# Altium footprint library con-molex-micro-fit-3_0.PCBLIB: 194 footprints (part 2 of 13)
Each footprint in its own frame and in the unit in brackets; x right, y up, seen from the top. Pads: shape width x height; smd on the part's side, far side on the other; paste and mask are expansions set on the pad; w line width, h text height; cw(c..) or ccw(c..) is an arc to the next point about the centre after c.
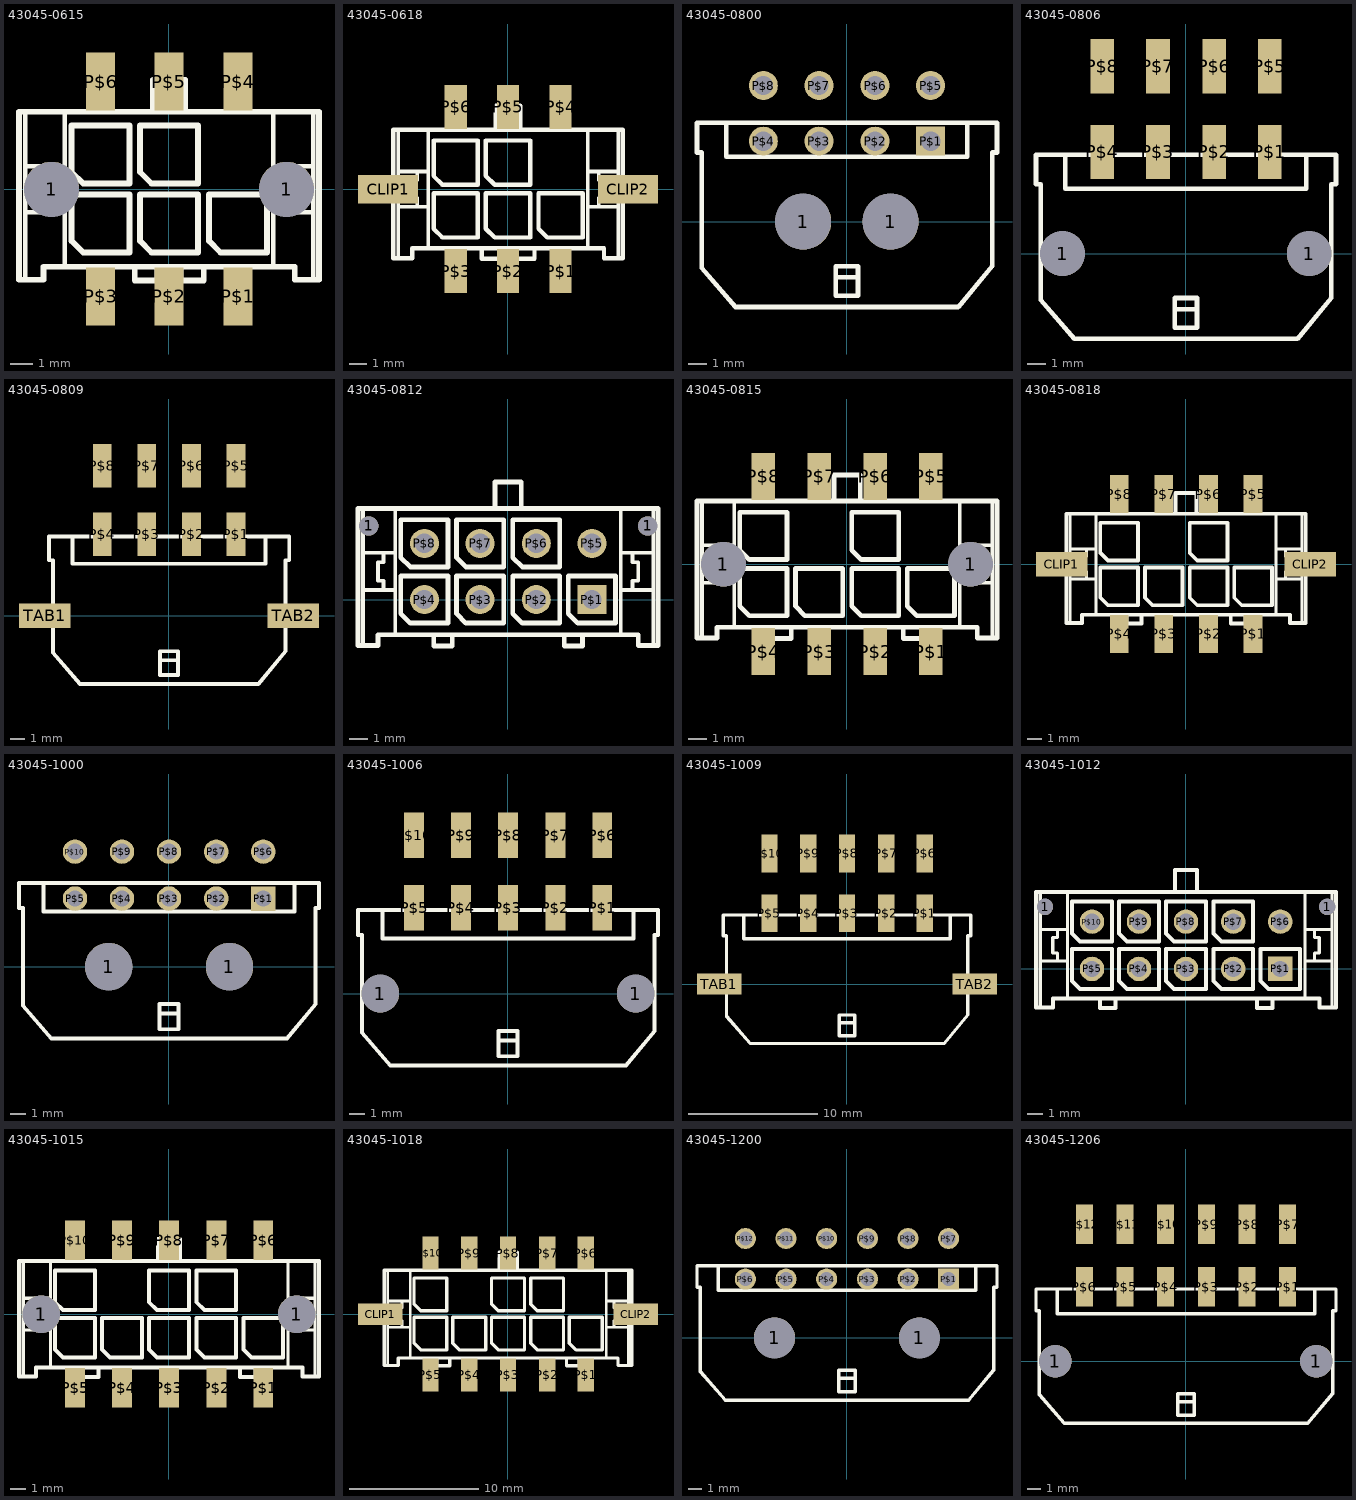
[diagram p1: the footprints below, top view; thin cyan lines are the x and y axes]

## 43045-0615 [mil]
pads (8):
  round 95 hole 95: 1(-202.76,0) 1(203,0)
  rect 50x100 smd: P$1(119,-185.04) P$2(0,-185.04) P$3(-118.11,-185.04) P$4(119,186) P$5(0,186) P$6(-118.11,186)
Top Overlay:
  lines w8: -248.03,-156.3 -248.03,-39.37 ; -248.03,134 -248.03,40 ; -179.92,-133.86 -179.92,-39.37 ; -179.92,134 -179.92,40 ; 180,-133.86 180,-39.37 ; 180,134 180,40 ; 249,-156.3 249,-39.37 ; 249,134 249,40 ; -248.03,-39.37 -248.03,40 ; -248.03,-39.37 -204.72,-39.37 ; -248.03,40 -204.72,40 ; -204.72,-39.37 -179.92,-39.37 ; -204.72,-39.37 -204.72,-19.68 -216.54,-19.68 -216.54,20 -204.72,20 -204.72,40 ; -204.72,40 -179.92,40 ; -179.92,-39.37 -179.92,40 ; 180,-39.37 180,40 ; 180,-39.37 205,-39.37 ; 180,40 205,40 ; 205,-39.37 249,-39.37 ; 205,-39.37 205,-19.68 217,-19.68 217,20 205,20 205,40 ; 205,40 249,40 ; 249,-39.37 249,40
  lines w10: -59.06,-133.86 -19.68,-133.86 ; -59.06,-133.86 -179.92,-133.86 -216.54,-133.86 -216.54,-156.3 -248.03,-156.3 -258.86,-156.3 -258.86,134 -248.03,134 -179.92,134 -27.56,134 ; -59.06,-133.86 -59.06,-157.48 -19.68,-157.48 -19.68,-133.86 ; -27.56,134 28,134 ; -27.56,134 -27.56,189 28,189 28,134 ; -19.68,-133.86 20,-133.86 ; 20,-133.86 60,-133.86 ; 20,-133.86 20,-157.48 60,-157.48 60,-133.86 ; 28,134 180,134 249,134 259,134 259,-156.3 249,-156.3 217,-156.3 217,-133.86 180,-133.86 60,-133.86 ; -168.11,-89.06 -168.11,-9.06 -68.11,-9.06 -68.11,-109.06 -148.11,-109.06 -168.11,-89.06 ; -168.11,30 -168.11,110 -68.11,110 -68.11,10 -148.11,10 -168.11,30 ; -50,-89.06 -50,-9.06 50,-9.06 50,-109.06 -30,-109.06 -50,-89.06 ; -50,30 -50,110 50,110 50,10 -30,10 -50,30 ; 69,-89.06 69,-9.06 169,-9.06 169,-109.06 89,-109.06 69,-89.06
Bottom Overlay:
  lines w10: 69,10 69,110 169,110 169,30 149,10 69,10

## 43045-0618 [mil]
pads (8):
  rect 136x65 smd: CLIP1(-270.87,0) CLIP2(271,0)
  rect 50x100 smd: P$1(119,-185.04) P$2(0,-185.04) P$3(-118.11,-185.04) P$4(119,186) P$5(0,186) P$6(-118.11,186)
Top Overlay:
  lines w8: -248.03,-156.3 -248.03,-39.37 ; -248.03,134 -248.03,40 ; -179.92,-133.86 -179.92,-39.37 ; -179.92,134 -179.92,40 ; 180,-133.86 180,-39.37 ; 180,134 180,40 ; 249,-156.3 249,-39.37 ; 249,134 249,40 ; -248.03,-39.37 -248.03,40 ; -248.03,-39.37 -204.72,-39.37 ; -248.03,40 -204.72,40 ; -204.72,-39.37 -179.92,-39.37 ; -204.72,-39.37 -204.72,-19.68 -216.54,-19.68 -216.54,20 -204.72,20 -204.72,40 ; -204.72,40 -179.92,40 ; -179.92,-39.37 -179.92,40 ; 180,-39.37 180,40 ; 180,-39.37 205,-39.37 ; 180,40 205,40 ; 205,-39.37 249,-39.37 ; 205,-39.37 205,-19.68 217,-19.68 217,20 205,20 205,40 ; 205,40 249,40 ; 249,-39.37 249,40
  lines w10: -59.06,-133.86 -19.68,-133.86 ; -59.06,-133.86 -179.92,-133.86 -216.54,-133.86 -216.54,-156.3 -248.03,-156.3 -258.86,-156.3 -258.86,134 -248.03,134 -179.92,134 -27.56,134 ; -59.06,-133.86 -59.06,-157.48 -19.68,-157.48 -19.68,-133.86 ; -27.56,134 28,134 ; -27.56,134 -27.56,189 28,189 28,134 ; -19.68,-133.86 20,-133.86 ; 20,-133.86 60,-133.86 ; 20,-133.86 20,-157.48 60,-157.48 60,-133.86 ; 28,134 180,134 249,134 259,134 259,-156.3 249,-156.3 217,-156.3 217,-133.86 180,-133.86 60,-133.86 ; -168.11,-89.06 -168.11,-9.06 -68.11,-9.06 -68.11,-109.06 -148.11,-109.06 -168.11,-89.06 ; -168.11,30 -168.11,110 -68.11,110 -68.11,10 -148.11,10 -168.11,30 ; -50,-89.06 -50,-9.06 50,-9.06 50,-109.06 -30,-109.06 -50,-89.06 ; -50,30 -50,110 50,110 50,10 -30,10 -50,30 ; 69,-89.06 69,-9.06 169,-9.06 169,-109.06 89,-109.06 69,-89.06
Bottom Overlay:
  lines w10: 69,10 69,110 169,110 169,30 149,10 69,10

## 43045-0800 [mil]
pads (10):
  round 119 hole 119: 1(-92.52,0) 1(93,0)
  rect 61.5x61.5 hole 41: P$1(178,171)
  round 61.5 hole 41: P$2(60,171) P$3(-59.06,171) P$4(-177.17,171) P$5(178,289) P$6(60,289) P$7(-59.06,289) P$8(-177.17,289)
Top Overlay:
  lines w5: -190.16,210 -255.91,210 -189.96,210
  lines w10: -255.91,210 -318.11,210 -318.11,147 -308.07,147 -308.07,-98.43 -236.22,-181.1 237,-181.1 309,-94.49 309,147 319,147 319,210 256,210 ; -255.91,210 256,210 ; -255.91,210 -255.91,138 256,138 256,210 ; -23.62,-118.11 -23.62,-157.48 24,-157.48 24,-118.11 ; -23.62,-118.11 -23.62,-94.49 24,-94.49 24,-118.11 ; -23.62,-118.11 24,-118.11

## 43045-0806 [mil]
pads (10):
  round 95 hole 95: 1(-261.81,0) 1(262,0)
  rect 50x115 smd: P$1(178,216) P$2(60,216) P$3(-59.06,216) P$4(-177.17,216) P$5(178,398) P$6(60,398) P$7(-59.06,398) P$8(-177.17,398)
Top Overlay:
  lines w5: -190.16,210 -255.91,210 -189.96,210
  lines w10: -255.91,210 -318.11,210 -318.11,147 -308.07,147 -308.07,-98.43 -236.22,-181.1 237,-181.1 309,-94.49 309,147 319,147 319,210 256,210 ; -255.91,210 256,210 ; -255.91,210 -255.91,138 256,138 256,210 ; -23.62,-118.11 -23.62,-157.48 24,-157.48 24,-118.11 ; -23.62,-118.11 -23.62,-94.49 24,-94.49 24,-118.11 ; -23.62,-118.11 24,-118.11

## 43045-0809 [mil]
pads (10):
  rect 50x115 smd: P$1(178,216) P$2(60,216) P$3(-59.06,216) P$4(-177.17,216) P$5(178,398) P$6(60,398) P$7(-59.06,398) P$8(-177.17,398)
  rect 136x65 smd: TAB1(-329.92,0) TAB2(330,0)
Top Overlay:
  lines w5: -190.16,210 -255.91,210 -189.96,210
  lines w10: -255.91,210 -318.11,210 -318.11,147 -308.07,147 -308.07,-98.43 -236.22,-181.1 237,-181.1 309,-94.49 309,147 319,147 319,210 256,210 ; -255.91,210 256,210 ; -255.91,210 -255.91,138 256,138 256,210 ; -23.62,-118.11 -23.62,-157.48 24,-157.48 24,-118.11 ; -23.62,-118.11 -23.62,-94.49 24,-94.49 24,-118.11 ; -23.62,-118.11 24,-118.11

## 43045-0812 [mil]
pads (10):
  round 41 hole 41: 1(-295.28,156) 1(296,156)
  rect 61.5x61.5 hole 41: P$1(178,0)
  round 61.5 hole 41: P$2(60,0) P$3(-59.06,0) P$4(-177.17,0) P$5(178,119) P$6(60,119) P$7(-59.06,119) P$8(-177.17,119)
Top Overlay:
  lines w8: -307.09,-97.24 -307.09,20 ; -307.09,193 -307.09,99 ; -238.98,-74.8 -238.98,20 ; -238.98,193 -238.98,99 ; 239,-74.8 239,20 ; 239,193 239,99 ; 308,-97.24 308,20 ; 308,193 308,99 ; -307.09,20 -307.09,99 ; -307.09,20 -263.78,20 ; -307.09,99 -263.78,99 ; -263.78,20 -238.98,20 ; -263.78,20 -263.78,40 -275.59,40 -275.59,79 -263.78,79 -263.78,99 ; -263.78,99 -238.98,99 ; -238.98,20 -238.98,99 ; 239,20 239,99 ; 239,20 264,20 ; 239,99 264,99 ; 264,20 308,20 ; 264,20 264,40 276,40 276,79 264,79 264,99 ; 264,99 308,99 ; 308,20 308,99
  lines w10: -157.48,-74.8 -118.11,-74.8 ; -157.48,-74.8 -238.98,-74.8 -275.59,-74.8 -275.59,-97.24 -307.09,-97.24 -317.91,-97.24 -317.91,193 -307.09,193 -238.98,193 -27.56,193 ; -157.48,-74.8 -157.48,-98.43 -118.11,-98.43 -118.11,-74.8 ; -118.11,-74.8 119,-74.8 ; -27.56,193 28,193 ; -27.56,193 -27.56,249 28,249 28,193 ; 28,193 239,193 308,193 318,193 318,-97.24 308,-97.24 276,-97.24 276,-74.8 239,-74.8 158,-74.8 ; 119,-74.8 158,-74.8 ; 119,-74.8 119,-98.43 158,-98.43 158,-74.8 ; -227.17,-30 -227.17,50 -127.17,50 -127.17,-50 -207.17,-50 -227.17,-30 ; -227.17,89 -227.17,169 -127.17,169 -127.17,69 -207.17,69 -227.17,89 ; -109.06,-30 -109.06,50 -9.06,50 -9.06,-50 -89.06,-50 -109.06,-30 ; -109.06,89 -109.06,169 -9.06,169 -9.06,69 -89.06,69 -109.06,89 ; 10,-30 10,50 110,50 110,-50 30,-50 10,-30 ; 10,89 10,169 110,169 110,69 30,69 10,89 ; 128,-30 128,50 228,50 228,-50 148,-50 128,-30
Bottom Overlay:
  lines w10: 128,69 128,169 228,169 228,89 208,69 128,69

## 43045-0815 [mil]
pads (10):
  round 95 hole 95: 1(-261.81,0) 1(262,0)
  rect 50x100 smd: P$1(178,-185.04) P$2(60,-185.04) P$3(-59.06,-185.04) P$4(-177.17,-185.04) P$5(178,186) P$6(60,186) P$7(-59.06,186) P$8(-177.17,186)
Top Overlay:
  lines w8: -307.09,-156.3 -307.09,-39.37 ; -307.09,134 -307.09,40 ; -238.98,-133.86 -238.98,-39.37 ; -238.98,134 -238.98,40 ; 239,-133.86 239,-39.37 ; 239,134 239,40 ; 308,-156.3 308,-39.37 ; 308,134 308,40 ; -307.09,-39.37 -307.09,40 ; -307.09,-39.37 -263.78,-39.37 ; -307.09,40 -263.78,40 ; -263.78,-39.37 -238.98,-39.37 ; -263.78,-39.37 -263.78,-19.68 -275.59,-19.68 -275.59,20 -263.78,20 -263.78,40 ; -263.78,40 -238.98,40 ; -238.98,-39.37 -238.98,40 ; 239,-39.37 239,40 ; 239,-39.37 264,-39.37 ; 239,40 264,40 ; 264,-39.37 308,-39.37 ; 264,-39.37 264,-19.68 276,-19.68 276,20 264,20 264,40 ; 264,40 308,40 ; 308,-39.37 308,40
  lines w10: -157.48,-133.86 -118.11,-133.86 ; -157.48,-133.86 -238.98,-133.86 -275.59,-133.86 -275.59,-156.3 -307.09,-156.3 -317.91,-156.3 -317.91,134 -307.09,134 -238.98,134 -27.56,134 ; -157.48,-133.86 -157.48,-157.48 -118.11,-157.48 -118.11,-133.86 ; -118.11,-133.86 119,-133.86 ; -27.56,134 28,134 ; -27.56,134 -27.56,189 28,189 28,134 ; 28,134 239,134 308,134 318,134 318,-156.3 308,-156.3 276,-156.3 276,-133.86 239,-133.86 158,-133.86 ; 119,-133.86 158,-133.86 ; 119,-133.86 119,-157.48 158,-157.48 158,-133.86 ; -227.17,-89.06 -227.17,-9.06 -127.17,-9.06 -127.17,-109.06 -207.17,-109.06 -227.17,-89.06 ; -227.17,30 -227.17,110 -127.17,110 -127.17,10 -207.17,10 -227.17,30 ; -109.06,-89.06 -109.06,-9.06 -9.06,-9.06 -9.06,-109.06 -89.06,-109.06 -109.06,-89.06 ; 10,-89.06 10,-9.06 110,-9.06 110,-109.06 30,-109.06 10,-89.06 ; 10,30 10,110 110,110 110,10 30,10 10,30 ; 128,-89.06 128,-9.06 228,-9.06 228,-109.06 148,-109.06 128,-89.06
Bottom Overlay:
  lines w10: -109.06,10 -109.06,110 -9.06,110 -9.06,30 -29.06,10 -109.06,10 ; 128,10 128,110 228,110 228,30 208,10 128,10

## 43045-0818 [mil]
pads (10):
  rect 136x65 smd: CLIP1(-329.92,0) CLIP2(330,0)
  rect 50x100 smd: P$1(178,-185.04) P$2(60,-185.04) P$3(-59.06,-185.04) P$4(-177.17,-185.04) P$5(178,186) P$6(60,186) P$7(-59.06,186) P$8(-177.17,186)
Top Overlay:
  lines w8: -307.09,-156.3 -307.09,-39.37 ; -307.09,134 -307.09,40 ; -238.98,-133.86 -238.98,-39.37 ; -238.98,134 -238.98,40 ; 239,-133.86 239,-39.37 ; 239,134 239,40 ; 308,-156.3 308,-39.37 ; 308,134 308,40 ; -307.09,-39.37 -307.09,40 ; -307.09,-39.37 -263.78,-39.37 ; -307.09,40 -263.78,40 ; -263.78,-39.37 -238.98,-39.37 ; -263.78,-39.37 -263.78,-19.68 -275.59,-19.68 -275.59,20 -263.78,20 -263.78,40 ; -263.78,40 -238.98,40 ; -238.98,-39.37 -238.98,40 ; 239,-39.37 239,40 ; 239,-39.37 264,-39.37 ; 239,40 264,40 ; 264,-39.37 308,-39.37 ; 264,-39.37 264,-19.68 276,-19.68 276,20 264,20 264,40 ; 264,40 308,40 ; 308,-39.37 308,40
  lines w10: -157.48,-133.86 -118.11,-133.86 ; -157.48,-133.86 -238.98,-133.86 -275.59,-133.86 -275.59,-156.3 -307.09,-156.3 -317.91,-156.3 -317.91,134 -307.09,134 -238.98,134 -27.56,134 ; -157.48,-133.86 -157.48,-157.48 -118.11,-157.48 -118.11,-133.86 ; -118.11,-133.86 119,-133.86 ; -27.56,134 28,134 ; -27.56,134 -27.56,189 28,189 28,134 ; 28,134 239,134 308,134 318,134 318,-156.3 308,-156.3 276,-156.3 276,-133.86 239,-133.86 158,-133.86 ; 119,-133.86 158,-133.86 ; 119,-133.86 119,-157.48 158,-157.48 158,-133.86 ; -227.17,-89.06 -227.17,-9.06 -127.17,-9.06 -127.17,-109.06 -207.17,-109.06 -227.17,-89.06 ; -227.17,30 -227.17,110 -127.17,110 -127.17,10 -207.17,10 -227.17,30 ; -109.06,-89.06 -109.06,-9.06 -9.06,-9.06 -9.06,-109.06 -89.06,-109.06 -109.06,-89.06 ; 10,-89.06 10,-9.06 110,-9.06 110,-109.06 30,-109.06 10,-89.06 ; 10,30 10,110 110,110 110,10 30,10 10,30 ; 128,-89.06 128,-9.06 228,-9.06 228,-109.06 148,-109.06 128,-89.06
Bottom Overlay:
  lines w10: -109.06,10 -109.06,110 -9.06,110 -9.06,30 -29.06,10 -109.06,10 ; 128,10 128,110 228,110 228,30 208,10 128,10

## 43045-1000 [mil]
pads (12):
  round 119 hole 119: 1(-151.57,0) 1(152,0)
  rect 61.5x61.5 hole 41: P$1(237,171)
  round 61.5 hole 41: P$2(119,171) P$3(0,171) P$4(-118.11,171) P$5(-236.22,171) P$6(237,289) P$7(119,289) P$8(0,289) P$9(-118.11,289) P$10(-236.22,289)
Top Overlay:
  lines w5: -190.16,210 -314.96,210 -189.96,210
  lines w10: -314.96,210 -376.97,210 -376.97,147 -367.13,147 -367.13,-98.43 -295.28,-181.1 296,-181.1 368,-94.49 368,147 377,147 377,210 315,210 ; -314.96,210 315,210 ; -314.96,210 -314.96,138 315,138 315,210 ; -23.62,-118.11 -23.62,-157.48 24,-157.48 24,-118.11 ; -23.62,-118.11 -23.62,-94.49 24,-94.49 24,-118.11 ; -23.62,-118.11 24,-118.11

## 43045-1006 [mil]
pads (12):
  round 95 hole 95: 1(-320.87,0) 1(321,0)
  rect 50x115 smd: P$1(237,216) P$2(119,216) P$3(0,216) P$4(-118.11,216) P$5(-236.22,216) P$6(237,398) P$7(119,398) P$8(0,398) P$9(-118.11,398) P$10(-236.22,398)
Top Overlay:
  lines w5: -190.16,210 -314.96,210 -189.96,210
  lines w10: -314.96,210 -376.97,210 -376.97,147 -367.13,147 -367.13,-98.43 -295.28,-181.1 296,-181.1 368,-94.49 368,147 377,147 377,210 315,210 ; -314.96,210 315,210 ; -314.96,210 -314.96,138 315,138 315,210 ; -23.62,-118.11 -23.62,-157.48 24,-157.48 24,-118.11 ; -23.62,-118.11 -23.62,-94.49 24,-94.49 24,-118.11 ; -23.62,-118.11 24,-118.11

## 43045-1009 [mil]
pads (12):
  rect 50x115 smd: P$1(237,216) P$2(119,216) P$3(0,216) P$4(-118.11,216) P$5(-236.22,216) P$6(237,398) P$7(119,398) P$8(0,398) P$9(-118.11,398) P$10(-236.22,398)
  rect 136x65 smd: TAB1(-388.98,0) TAB2(389,0)
Top Overlay:
  lines w5: -190.16,210 -314.96,210 -189.96,210
  lines w10: -314.96,210 -376.97,210 -376.97,147 -367.13,147 -367.13,-98.43 -295.28,-181.1 296,-181.1 368,-94.49 368,147 377,147 377,210 315,210 ; -314.96,210 315,210 ; -314.96,210 -314.96,138 315,138 315,210 ; -23.62,-118.11 -23.62,-157.48 24,-157.48 24,-118.11 ; -23.62,-118.11 -23.62,-94.49 24,-94.49 24,-118.11 ; -23.62,-118.11 24,-118.11

## 43045-1012 [mil]
pads (12):
  round 41 hole 41: 1(-354.33,156) 1(355,156)
  rect 61.5x61.5 hole 41: P$1(237,0)
  round 61.5 hole 41: P$2(119,0) P$3(0,0) P$4(-118.11,0) P$5(-236.22,0) P$6(237,119) P$7(119,119) P$8(0,119) P$9(-118.11,119) P$10(-236.22,119)
Top Overlay:
  lines w8: -366.14,-97.24 -366.14,20 ; -366.14,193 -366.14,99 ; -298.03,-74.8 -298.03,20 ; -298.03,193 -298.03,99 ; 299,-74.8 299,20 ; 299,193 299,99 ; 367,-97.24 367,20 ; 367,193 367,99 ; -366.14,20 -366.14,99 ; -366.14,20 -322.83,20 ; -366.14,99 -322.83,99 ; -322.83,20 -298.03,20 ; -322.83,20 -322.83,40 -334.65,40 -334.65,79 -322.83,79 -322.83,99 ; -322.83,99 -298.03,99 ; -298.03,20 -298.03,99 ; 299,20 299,99 ; 299,20 323,20 ; 299,99 323,99 ; 323,20 367,20 ; 323,20 323,40 335,40 335,79 323,79 323,99 ; 323,99 367,99 ; 367,20 367,99
  lines w10: -216.54,-74.8 -177.17,-74.8 ; -216.54,-74.8 -298.03,-74.8 -334.65,-74.8 -334.65,-97.24 -366.14,-97.24 -376.97,-97.24 -376.97,193 -366.14,193 -298.03,193 -27.56,193 ; -216.54,-74.8 -216.54,-98.43 -177.17,-98.43 -177.17,-74.8 ; -177.17,-74.8 178,-74.8 ; -27.56,193 28,193 ; -27.56,193 -27.56,249 28,249 28,193 ; 28,193 299,193 367,193 377,193 377,-97.24 367,-97.24 335,-97.24 335,-74.8 299,-74.8 217,-74.8 ; 178,-74.8 217,-74.8 ; 178,-74.8 178,-98.43 217,-98.43 217,-74.8 ; -286.22,-30 -286.22,50 -186.22,50 -186.22,-50 -266.22,-50 -286.22,-30 ; -286.22,89 -286.22,169 -186.22,169 -186.22,69 -266.22,69 -286.22,89 ; -168.11,-30 -168.11,50 -68.11,50 -68.11,-50 -148.11,-50 -168.11,-30 ; -168.11,89 -168.11,169 -68.11,169 -68.11,69 -148.11,69 -168.11,89 ; -50,-30 -50,50 50,50 50,-50 -30,-50 -50,-30 ; -50,89 -50,169 50,169 50,69 -30,69 -50,89 ; 69,-30 69,50 169,50 169,-50 89,-50 69,-30 ; 69,89 69,169 169,169 169,69 89,69 69,89 ; 187,-30 187,50 287,50 287,-50 207,-50 187,-30
Bottom Overlay:
  lines w10: 187,69 187,169 287,169 287,89 267,69 187,69

## 43045-1015 [mil]
pads (12):
  round 95 hole 95: 1(-320.87,0) 1(321,0)
  rect 50x100 smd: P$1(237,-185.04) P$2(119,-185.04) P$3(0,-185.04) P$4(-118.11,-185.04) P$5(-236.22,-185.04) P$6(237,186) P$7(119,186) P$8(0,186) P$9(-118.11,186) P$10(-236.22,186)
Top Overlay:
  lines w8: -366.14,-156.3 -366.14,-39.37 ; -366.14,134 -366.14,40 ; -298.03,-133.86 -298.03,-39.37 ; -298.03,134 -298.03,40 ; 299,-133.86 299,-39.37 ; 299,134 299,40 ; 367,-156.3 367,-39.37 ; 367,134 367,40 ; -366.14,-39.37 -366.14,40 ; -366.14,-39.37 -322.83,-39.37 ; -366.14,40 -322.83,40 ; -322.83,-39.37 -298.03,-39.37 ; -322.83,-39.37 -322.83,-19.68 -334.65,-19.68 -334.65,20 -322.83,20 -322.83,40 ; -322.83,40 -298.03,40 ; -298.03,-39.37 -298.03,40 ; 299,-39.37 299,40 ; 299,-39.37 323,-39.37 ; 299,40 323,40 ; 323,-39.37 367,-39.37 ; 323,-39.37 323,-19.68 335,-19.68 335,20 323,20 323,40 ; 323,40 367,40 ; 367,-39.37 367,40
  lines w10: -216.54,-133.86 -177.17,-133.86 ; -216.54,-133.86 -298.03,-133.86 -334.65,-133.86 -334.65,-156.3 -366.14,-156.3 -376.97,-156.3 -376.97,134 -366.14,134 -298.03,134 -27.56,134 ; -216.54,-133.86 -216.54,-157.48 -177.17,-157.48 -177.17,-133.86 ; -177.17,-133.86 178,-133.86 ; -27.56,134 28,134 ; -27.56,134 -27.56,189 28,189 28,134 ; 28,134 299,134 367,134 377,134 377,-156.3 367,-156.3 335,-156.3 335,-133.86 299,-133.86 217,-133.86 ; 178,-133.86 217,-133.86 ; 178,-133.86 178,-157.48 217,-157.48 217,-133.86 ; -286.22,-89.06 -286.22,-9.06 -186.22,-9.06 -186.22,-109.06 -266.22,-109.06 -286.22,-89.06 ; -286.22,30 -286.22,110 -186.22,110 -186.22,10 -266.22,10 -286.22,30 ; -168.11,-89.06 -168.11,-9.06 -68.11,-9.06 -68.11,-109.06 -148.11,-109.06 -168.11,-89.06 ; -50,-89.06 -50,-9.06 50,-9.06 50,-109.06 -30,-109.06 -50,-89.06 ; -50,30 -50,110 50,110 50,10 -30,10 -50,30 ; 69,-89.06 69,-9.06 169,-9.06 169,-109.06 89,-109.06 69,-89.06 ; 69,30 69,110 169,110 169,10 89,10 69,30 ; 187,-89.06 187,-9.06 287,-9.06 287,-109.06 207,-109.06 187,-89.06
Bottom Overlay:
  lines w10: -168.11,10 -168.11,110 -68.11,110 -68.11,30 -88.11,10 -168.11,10 ; 187,10 187,110 287,110 287,30 267,10 187,10

## 43045-1018 [mil]
pads (12):
  rect 136x65 smd: CLIP1(-388.98,0) CLIP2(389,0)
  rect 50x100 smd: P$1(237,-185.04) P$2(119,-185.04) P$3(0,-185.04) P$4(-118.11,-185.04) P$5(-236.22,-185.04) P$6(237,186) P$7(119,186) P$8(0,186) P$9(-118.11,186) P$10(-236.22,186)
Top Overlay:
  lines w8: -366.14,-156.3 -366.14,-39.37 ; -366.14,134 -366.14,40 ; -298.03,-133.86 -298.03,-39.37 ; -298.03,134 -298.03,40 ; 299,-133.86 299,-39.37 ; 299,134 299,40 ; 367,-156.3 367,-39.37 ; 367,134 367,40 ; -366.14,-39.37 -366.14,40 ; -366.14,-39.37 -322.83,-39.37 ; -366.14,40 -322.83,40 ; -322.83,-39.37 -298.03,-39.37 ; -322.83,-39.37 -322.83,-19.68 -334.65,-19.68 -334.65,20 -322.83,20 -322.83,40 ; -322.83,40 -298.03,40 ; -298.03,-39.37 -298.03,40 ; 299,-39.37 299,40 ; 299,-39.37 323,-39.37 ; 299,40 323,40 ; 323,-39.37 367,-39.37 ; 323,-39.37 323,-19.68 335,-19.68 335,20 323,20 323,40 ; 323,40 367,40 ; 367,-39.37 367,40
  lines w10: -216.54,-133.86 -177.17,-133.86 ; -216.54,-133.86 -298.03,-133.86 -334.65,-133.86 -334.65,-156.3 -366.14,-156.3 -376.97,-156.3 -376.97,134 -366.14,134 -298.03,134 -27.56,134 ; -216.54,-133.86 -216.54,-157.48 -177.17,-157.48 -177.17,-133.86 ; -177.17,-133.86 178,-133.86 ; -27.56,134 28,134 ; -27.56,134 -27.56,189 28,189 28,134 ; 28,134 299,134 367,134 377,134 377,-156.3 367,-156.3 335,-156.3 335,-133.86 299,-133.86 217,-133.86 ; 178,-133.86 217,-133.86 ; 178,-133.86 178,-157.48 217,-157.48 217,-133.86 ; -286.22,-89.06 -286.22,-9.06 -186.22,-9.06 -186.22,-109.06 -266.22,-109.06 -286.22,-89.06 ; -286.22,30 -286.22,110 -186.22,110 -186.22,10 -266.22,10 -286.22,30 ; -168.11,-89.06 -168.11,-9.06 -68.11,-9.06 -68.11,-109.06 -148.11,-109.06 -168.11,-89.06 ; -50,-89.06 -50,-9.06 50,-9.06 50,-109.06 -30,-109.06 -50,-89.06 ; -50,30 -50,110 50,110 50,10 -30,10 -50,30 ; 69,-89.06 69,-9.06 169,-9.06 169,-109.06 89,-109.06 69,-89.06 ; 69,30 69,110 169,110 169,10 89,10 69,30 ; 187,-89.06 187,-9.06 287,-9.06 287,-109.06 207,-109.06 187,-89.06
Bottom Overlay:
  lines w10: -168.11,10 -168.11,110 -68.11,110 -68.11,30 -88.11,10 -168.11,10 ; 187,10 187,110 287,110 287,30 267,10 187,10

## 43045-1200 [mil]
pads (14):
  round 119 hole 119: 1(-210.63,0) 1(211,0)
  rect 61.5x61.5 hole 41: P$1(296,171)
  round 61.5 hole 41: P$2(178,171) P$3(60,171) P$4(-59.06,171) P$5(-177.17,171) P$6(-295.28,171) P$7(296,289) P$8(178,289) P$9(60,289) P$10(-59.06,289) P$11(-177.17,289) P$12(-295.28,289)
Top Overlay:
  lines w5: -190.16,210 -374.02,210 -189.96,210
  lines w10: -374.02,210 -436.22,210 -436.22,147 -426.18,147 -426.18,-98.43 -354.33,-181.1 355,-181.1 427,-94.49 427,147 437,147 437,210 375,210 ; -374.02,210 375,210 ; -374.02,210 -374.02,138 375,138 375,210 ; -23.62,-118.11 -23.62,-157.48 24,-157.48 24,-118.11 ; -23.62,-118.11 -23.62,-94.49 24,-94.49 24,-118.11 ; -23.62,-118.11 24,-118.11

## 43045-1206 [mil]
pads (14):
  round 95 hole 95: 1(-379.92,0) 1(380,0)
  rect 50x115 smd: P$1(296,216) P$2(178,216) P$3(60,216) P$4(-59.06,216) P$5(-177.17,216) P$6(-295.28,216) P$7(296,398) P$8(178,398) P$9(60,398) P$10(-59.06,398) P$11(-177.17,398) P$12(-295.28,398)
Top Overlay:
  lines w5: -190.16,210 -374.02,210 -189.96,210
  lines w10: -374.02,210 -436.22,210 -436.22,147 -426.18,147 -426.18,-98.43 -354.33,-181.1 355,-181.1 427,-94.49 427,147 437,147 437,210 375,210 ; -374.02,210 375,210 ; -374.02,210 -374.02,138 375,138 375,210 ; -23.62,-118.11 -23.62,-157.48 24,-157.48 24,-118.11 ; -23.62,-118.11 -23.62,-94.49 24,-94.49 24,-118.11 ; -23.62,-118.11 24,-118.11